# Altium schematic symbol library LCD_16x2_sch.SchLib: 1 symbol
Pins are listed as number, name and electrical type; pins without a type are passive.

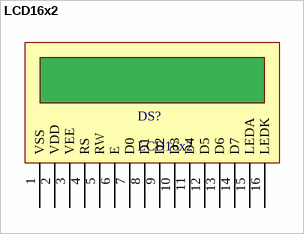
[diagram p0: symbol LCD16x2]

## LCD16x2
designator DS?
Dsiplay
footprint LCD_16x2
pins: 1 VSS, 2 VDD, 3 VEE, 4 RS, 5 RW, 6 E, 7 D0, 8 D1, 9 D2, 10 D3, 11 D4, 12 D5, 13 D6, 14 D7, 15 LEDA, 16 LEDK